# Altium schematic symbol library 7-Power_lib.SchLib: 17 symbols
Pins are listed as number, name and electrical type; pins without a type are passive.

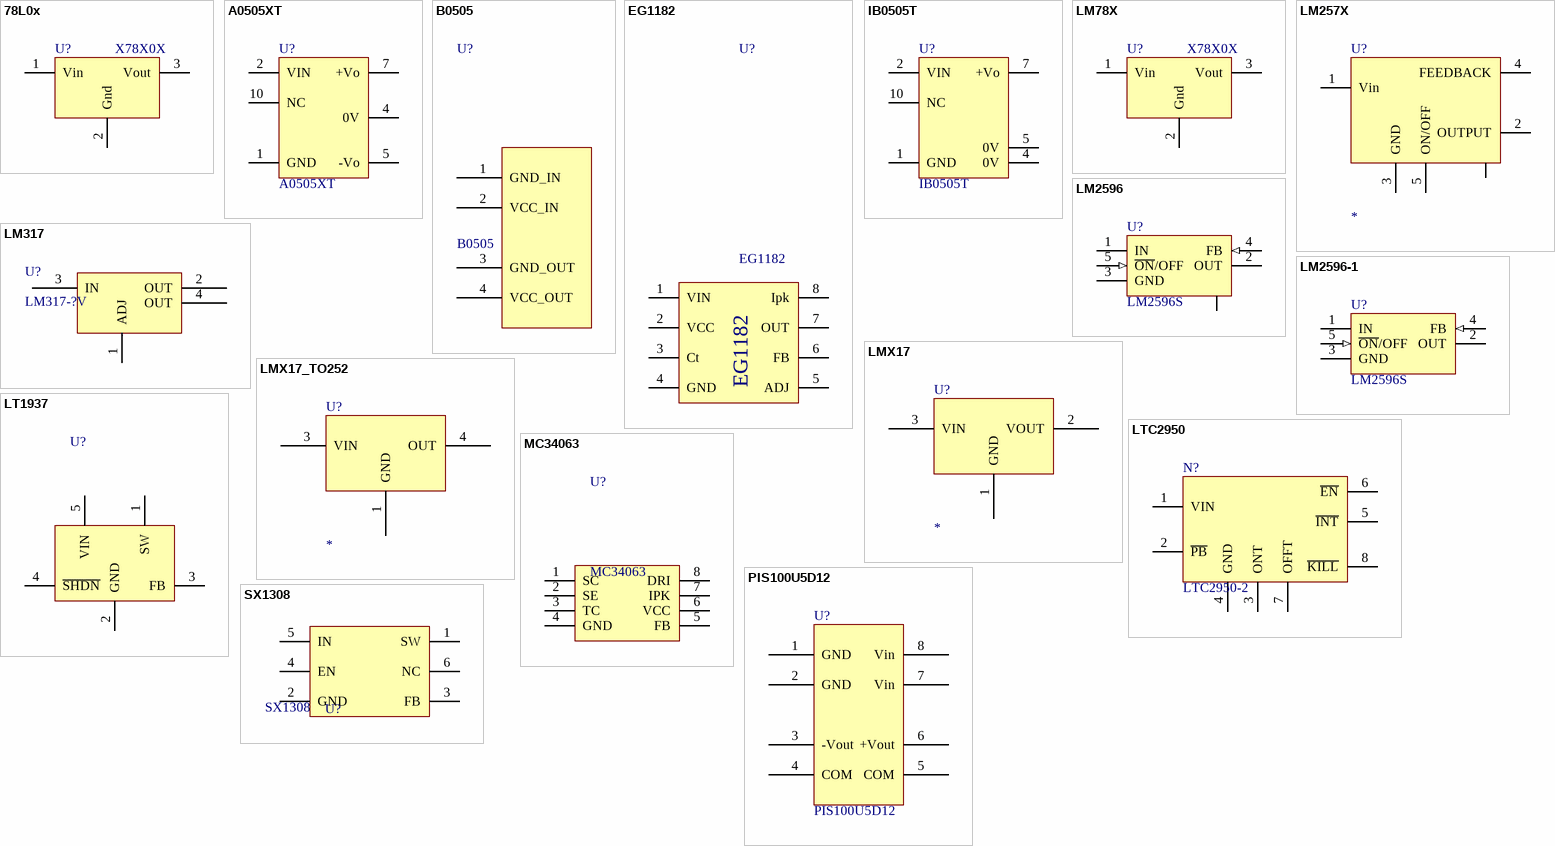
[diagram p0: symbols 78L0x to SX1308]

## 78L0x
designator U?, comment X78X0X
正电压等级转换器IC，电压等级有：5,6,8,9,12,15,24
footprint 7805
footprint TO-220
footprint lm7805
footprint SOT223
pins: 1 Vin, 2 Gnd, 3 Vout

## A0505XT
designator U?
隔离电源模块
footprint SO10_IB0505
pins: 1 GND, 2 VIN, 4 0V, 5 -Vo, 7 +Vo, 10 NC

## B0505
designator U?
隔离电源模块
footprint DC-DC_SIP4
pins: 1 GND_IN, 2 VCC_IN, 3 GND_OUT, 4 VCC_OUT
2 alternate drawings of the same symbol

## EG1182
designator U?
降压型开关电源
footprint SO-8_1
pins: 1 VIN, 2 VCC, 3 Ct, 4 GND, 5 ADJ, 6 FB, 7 OUT, 8 Ipk (power)

## IB0505T
designator U?
隔离电源模块
footprint SO10_IB0505
pins: 1 GND, 2 VIN, 4 0V, 5 0V, 7 +Vo, 10 NC

## LM78X
designator U?, comment X78X0X
三端稳压集成电路
footprint TO-252
pins: 1 Vin, 2 Gnd, 3 Vout

## LM257X
designator U?
开关稳压电源控制器
footprint LM2576
pins: 1 Vin, 2 OUTPUT, 3 GND, 4 FEEDBACK, 5 ON/OFF, 6 (power)

## LM317
designator U?, comment LM317-?V
三端稳压芯片(LDO); 价格: 1.05; 版本: 2015-V1.0; Value: LM317-?V
footprint SOT223-1
pins: 1 ADJ, 2 OUT, 3 IN, 4 OUT

## LM2596
designator U?, comment LM2596S
贴片稳压芯片(DC-DC); 价格: 3.5; 版本: 2015-V1.0; 品名: 降压稳压器; 封装: SOT-263-5; 生产厂家: *
footprint LM2576
pins: 1 IN (power), 2 OUT (power), 3 GND (power), 4 FB (in), 5 ~{ON}/OFF (in), 6 (power)

## LM2596-1
designator U?, comment LM2596S
直插稳压芯片(DC-DC); 价格: 3.5; 版本: 2015-V1.0; 品名: 降压稳压器; 封装: SOT-263-5; 生产厂家: *
footprint TO-220-5 (TO, Thru-Hole, Vertical, Heatsink Mounted; 5 In-Line Leads; Pitch 1.70 mm)
pins: 1 IN (power), 2 OUT (power), 3 GND (power), 4 FB (in), 5 ~{ON}/OFF (in)

## LMX17
designator U?
LM317/LM1117/
footprint SOT89
pins: 1 GND, 2 VOUT, 3 VIN

## LMX17_TO252
designator U?
LM317/LM1117/
footprint TO-252AA (D-PAK, 4-Leads, Body 6.1x6.5mm, Pitch 2.28mm, Lead Span 9.8mm, IPC Low Density)
pins: 1 GND, 3 VIN, 4 OUT

## LT1937
designator U?
开关型升压集成电路
footprint SOT-25-DBV
footprint SOT-23-5 - S
pins: 1 SW, 2 GND, 3 FB, 4 ~{SHDN}, 5 VIN

## LTC2950
designator N?, comment LTC2950-2
footprint LTC2950ITS8-2
pins: 1 VIN, 2 ~{PB}, 3 ONT, 4 GND, 5 ~{INT}, 6 ~{EN}, 7 OFFT, 8 ~{KILL}

## MC34063
designator U?
开关型稳压芯片
footprint SO-8 (SOIC)
footprint MC34063A-D
pins: 1 SC, 2 SE, 3 TC, 4 GND, 5 FB, 6 VCC, 7 IPK, 8 DRI

## PIS100U5D12
designator U?
5V转正负12V
footprint PSI100U5D12
pins: 1 GND, 2 GND, 3 -Vout, 4 COM, 5 COM, 6 +Vout, 7 Vin, 8 Vin
2 alternate drawings of the same symbol

## SX1308
designator U?
升压转换芯片
footprint SOT-23-6M
footprint SOT-236
pins: 1 SW, 2 GND, 3 FB, 4 EN, 5 IN, 6 NC